# EAGLE library part TMP102AQDRLRQ1 (library weather_station)
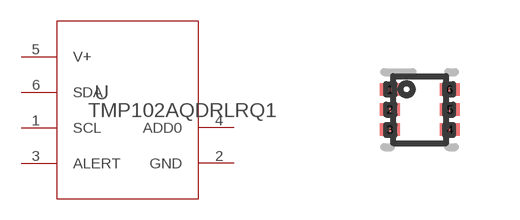
[diagram p6: symbol with the pads of DRL0006A; footprint DRL0006A]

Designator prefix U

## TMP102AQDRLRQ1 (COMPTYPE: IC; MANUFACTURER: Texas Instruments; MOUNTTYPE: SMT; PACKAGEREFERENCE: DRL0006A; PARTNUMBER: TMP102AQDRLRQ1; PIN_COUNT: 6; REFDES: RefDes; ROHS: Y; TYPE: TYPE; VALUE: Value)  [DRL0006A]
1  SCL
2  GND  pwr
3  ALERT  out
4  ADD0  in
5  V+  pwr
6  SDA

## Footprint DRL0006A (pad centres in mm)
smd 0.508 x 0.305: 1 -0.75,0.5; 2 -0.75,0; 3 -0.75,-0.5; 4 0.75,-0.5; 5 0.75,0; 6 0.75,0.5